# Altium footprint library SCA3100.PcbLib: 1 footprints
Each footprint in its own frame and in the unit in brackets; x right, y up, seen from the top. Pads: shape width x height; smd on the part's side, far side on the other; paste and mask are expansions set on the pad; w line width, h text height; cw(c..) or ccw(c..) is an arc to the next point about the centre after c.
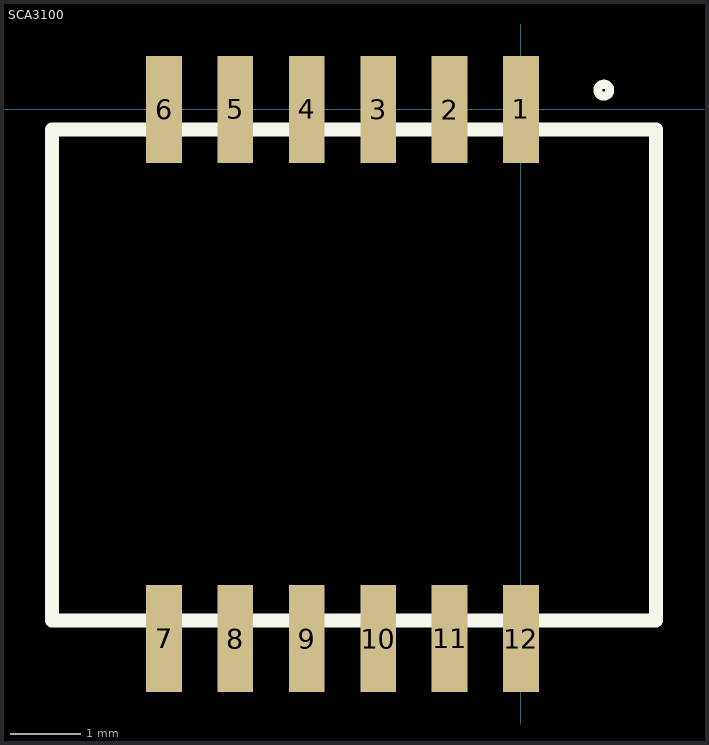
[diagram p0: the footprint, top view; thin cyan lines are the x and y axes]

## SCA3100 [mil]
pads (12):
  rect 20x60 smd: 1(0,0) 2(-40,-0.15) 3(-80,0) 4(-120,0) 5(-160,0) 6(-200,0) 7(-200,-296.56) 8(-160,-296.56) 9(-120,-296.56) 10(-80,-296.56) 11(-40,-296.56) 12(0,-296.56)
TopOverlay:
  circle w5: c46.37,10.76 r3.35
  lines w8: 75.71,-249.93 75.7,-249.92 ; -262.8,-286.38 -262.8,-11.28 75.7,-11.28 75.7,-286.38 -262.8,-286.38
3D body: height 130.6, standoff 0.6, extent -266.18,-299.15 71.82,0.85